# Altium footprint library M25P80-V MN6T.PcbLib: 1 footprints
Each footprint in its own frame and in the unit in brackets; x right, y up, seen from the top. Pads: shape width x height; smd on the part's side, far side on the other; paste and mask are expansions set on the pad; w line width, h text height; cw(c..) or ccw(c..) is an arc to the next point about the centre after c.
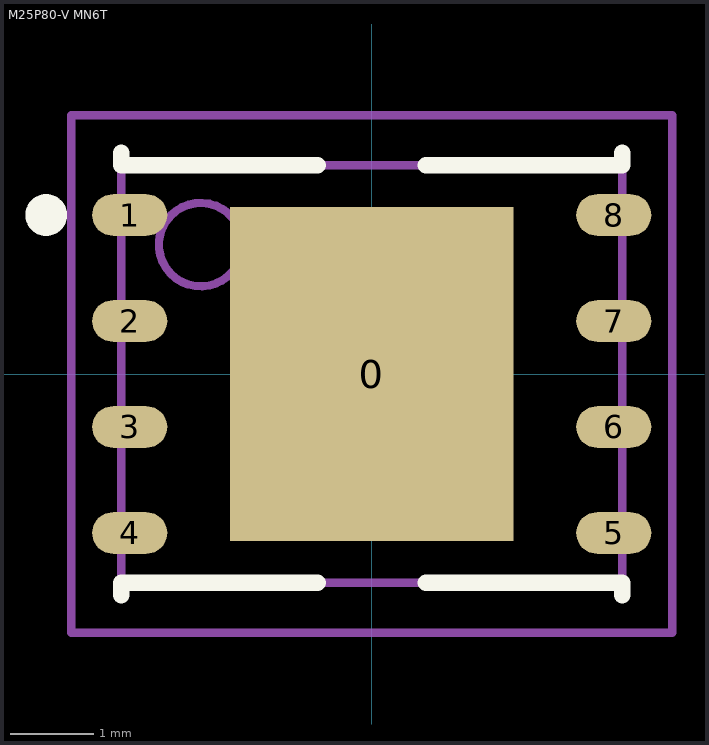
[diagram p0: the footprint, top view; thin cyan lines are the x and y axes]

## M25P80-V MN6T [mm] "QFN, 8-Leads, Body 5,0x6,0mm (max), Pitch 0,00mm, Pitch1 1,27mm, IPC Medium Density"
height 0.85
pads (9):
  rect 3.4x4 smd: 0(0,0)
  oval 0.9x0.5 smd: 1(-2.9,1.905) 2(-2.9,0.635) 3(-2.9,-0.635) 4(-2.9,-1.905) 5(2.9,-1.905) 6(2.9,-0.635) 7(2.9,0.635) 8(2.9,1.905)
Top Overlay:
  circle w0.25: c-3.9,1.905 r0.125
  lines w0.2: -3,-2.65 -3,-2.5 -0.65,-2.5 ; -3,2.65 -3,2.5 -0.65,2.5 ; 0.65,-2.5 3,-2.5 3,-2.65 ; 0.65,2.5 3,2.5 3,2.65
Mechanical 13:
  circle w0.1: c-2.05,1.55 r0.5
  lines w0.1: -3,-2.5 -3,2.5 3,2.5 3,-2.5 -3,-2.5
Mechanical 15:
  lines w0.1: -0.5,0 0.5,0 ; 0,-0.5 0,0.5 ; -3.6,-3.1 -3.6,3.1 3.6,3.1 3.6,-3.1 -3.6,-3.1
3D body: height 0.85, standoff 0, extent -3,-2.5 3,2.5